# EAGLE library part TPS2552 (library 1)
TPS2552 PRECISION ADJUSTABLE CURRENT-LIMITED POWER-DISTRIBUTION SWITCHES
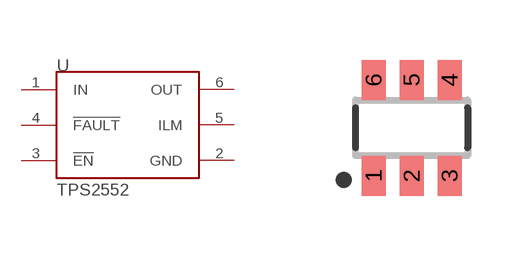
[diagram p60: symbol with the pads of SOT23-6; footprint SOT23-6]

Designator prefix -

## TPS2552DBV  [SOT23-6]
1  IN
2  GND
3  !EN
4  !FAULT
5  ILM
6  OUT

## Footprint SOT23-6 (pad centres in mm)
smd 0.6 x 1: 1 -0.95,-1.2; 2 0,-1.2; 3 0.95,-1.2; 4 0.95,1.2; 5 0,1.2; 6 -0.95,1.2